# EAGLE library part TC4424 (library Microchip-TC44xx)
IC, MOSFET DRIVER, LOW SIDE, DIP-8
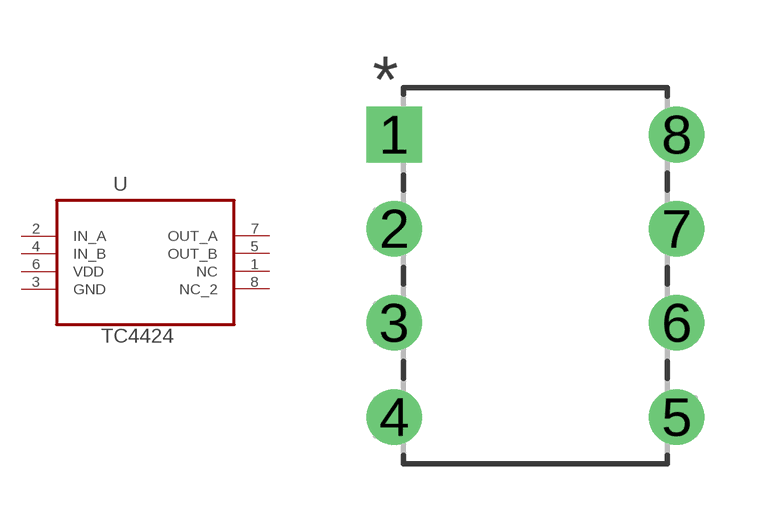
[diagram p7: symbol with the pads of DIP254P762X432-8; footprint DIP254P762X432-8]

Designator prefix U

## TC4424CPA (MPN: TC4424CPA; OC_FARNELL: 1557423; OC_NEWARK: 96K4016; PACKAGE: DIP-8; SUPPLIER: MICROCHIP)  [DIP254P762X432-8]
1  NC  nc
2  IN_A  in
3  GND  pas
4  IN_B  in
5  OUT_B  out
6  VDD  pwr
7  OUT_A  out
8  NC_2  nc

## Footprint DIP254P762X432-8 (pad centres in mm)
drill 0.991 square: 1 -7.62,7.62
drill 0.991: 2 -7.62,5.08; 3 -7.62,2.54; 4 -7.62,0; 5 0,0; 6 0,2.54; 7 0,5.08; 8 0,7.62